# Altium schematic symbol library TPS563249DDCR.SchLib: 1 symbol
Pins are listed as number, name and electrical type; pins without a type are passive.

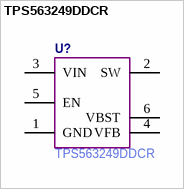
[diagram p0: symbol TPS563249DDCR]

## TPS563249DDCR
designator U?  Manufacturer Part Number: TPS563249DDCR  (hidden comment: *)
pins: 1 GND, 2 SW, 3 VIN, 4 VFB, 5 EN, 6 VBST